# Altium footprint library Pulser Driver.PcbLib: 49 footprints (part 2 of 4)
Each footprint in its own frame and in the unit in brackets; x right, y up, seen from the top. Pads: shape width x height; smd on the part's side, far side on the other; paste and mask are expansions set on the pad; w line width, h text height; cw(c..) or ccw(c..) is an arc to the next point about the centre after c.
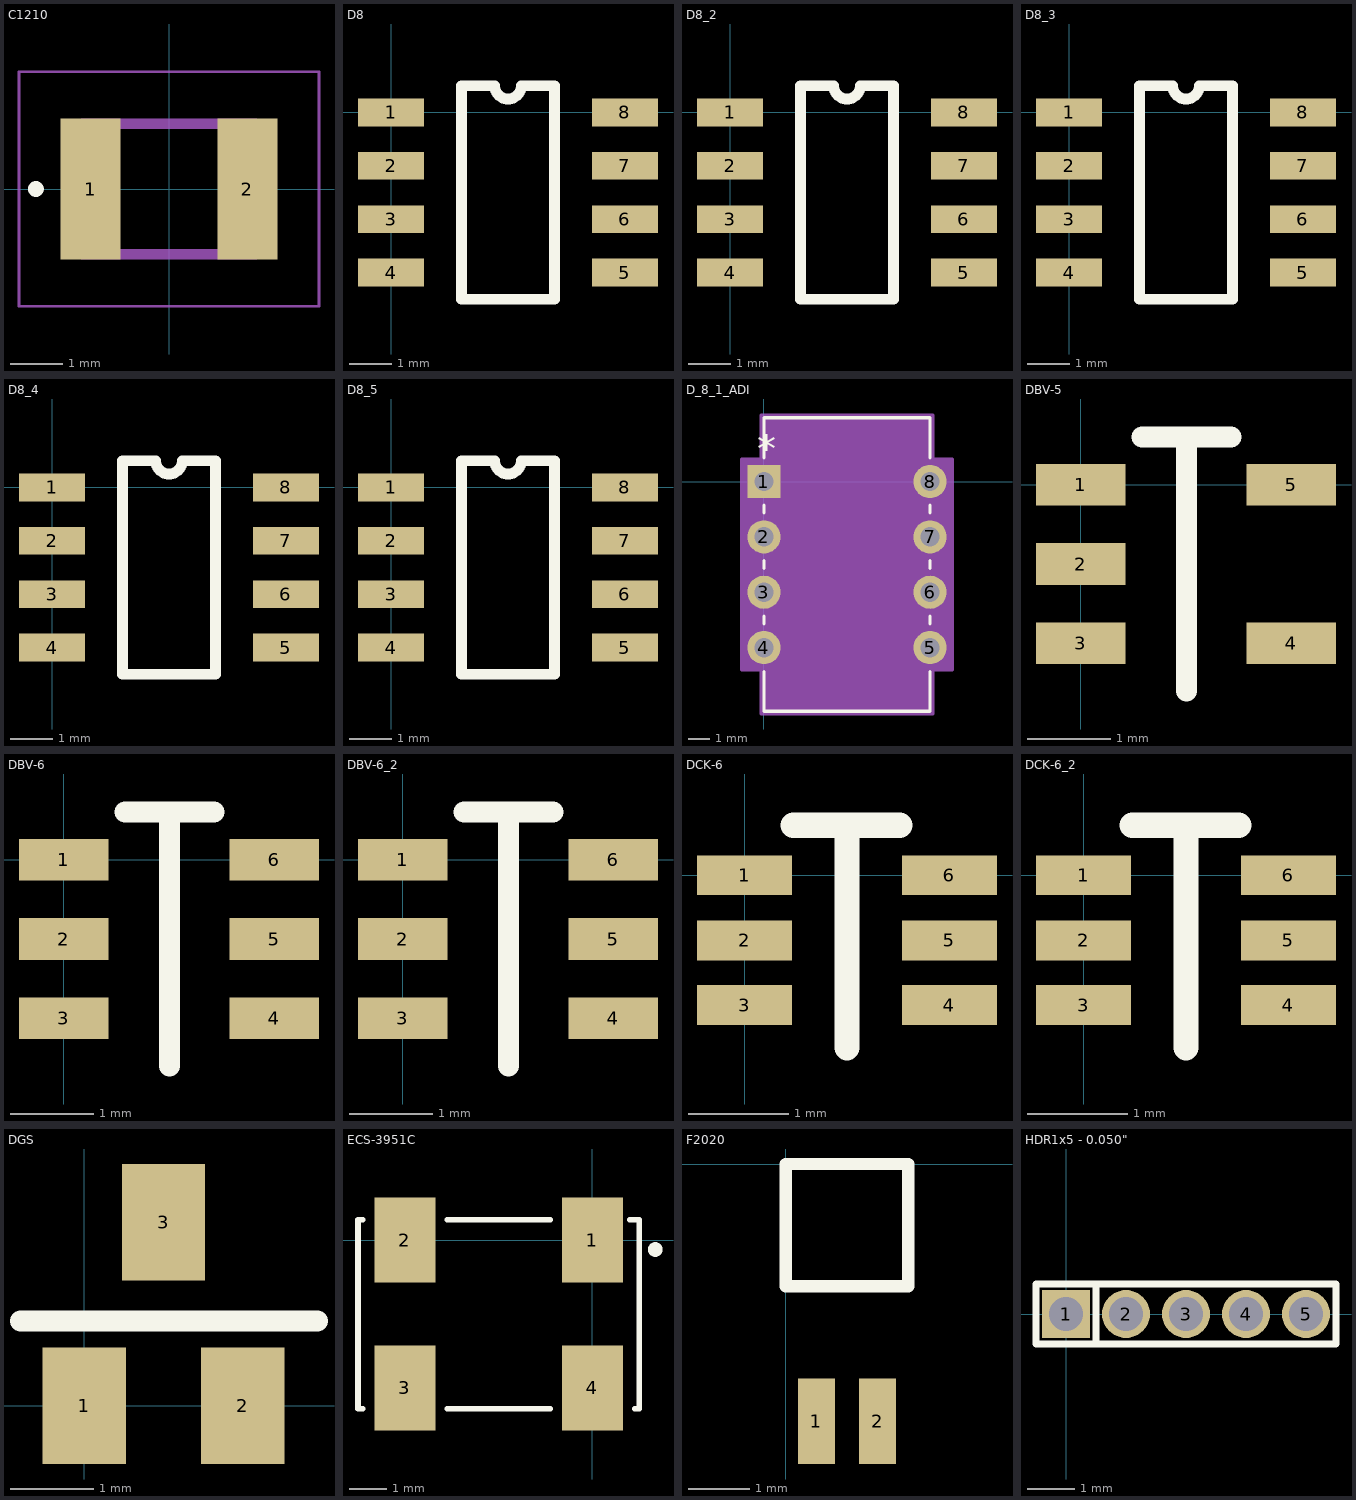
[diagram p1: the footprints below, top view; thin cyan lines are the x and y axes]

## C1210 [mm]
pads (2):
  rect 1.15x2.7 smd: 1(-1.5,0) 2(1.5,0)
Top Overlay:
  circle w0.2: c-2.55,0 r0.05
Mechanical 13:
  lines w0.2: -1.65,-1.25 1.65,-1.25 1.65,1.25 -1.65,1.25 -1.65,-1.25
Mechanical 15:
  lines w0.05: -2.875,-2.25 2.875,-2.25 2.875,2.25 -2.875,2.25 -2.875,-2.25
3D body "C1210H104J1GACTU.stp": height 1.9, standoff 0, extent -1.7,-1.35 1.7,1.35

## D8 [mil]
pads (8):
  rect 62x26 smd: 1(0,0) 2(0,-50) 3(0,-100) 4(0,-150) 5(219,-150) 6(219,-100) 7(219,-50) 8(219,0)
Top Overlay:
  lines w10: 66,-175 66,25 97,25 ccw(c109.5,25) 122,25 153,25 153,-175 66,-175

## D8_2 [mil]
pads (8):
  rect 62x26 smd: 1(0,0) 2(0,-50) 3(0,-100) 4(0,-150) 5(219,-150) 6(219,-100) 7(219,-50) 8(219,0)
Top Overlay:
  lines w10: 66,-175 66,25 97,25 ccw(c109.5,25) 122,25 153,25 153,-175 66,-175

## D8_3 [mil]
pads (8):
  rect 62x26 smd: 1(0,0) 2(0,-50) 3(0,-100) 4(0,-150) 5(219,-150) 6(219,-100) 7(219,-50) 8(219,0)
Top Overlay:
  lines w10: 66,-175 66,25 97,25 ccw(c109.5,25) 122,25 153,25 153,-175 66,-175

## D8_4 [mil]
pads (8):
  rect 62x26 smd: 1(0,0) 2(0,-50) 3(0,-100) 4(0,-150) 5(219,-150) 6(219,-100) 7(219,-50) 8(219,0)
Top Overlay:
  lines w10: 66,-175 66,25 97,25 ccw(c109.5,25) 122,25 153,25 153,-175 66,-175

## D8_5 [mil]
pads (8):
  rect 62x26 smd: 1(0,0) 2(0,-50) 3(0,-100) 4(0,-150) 5(219,-150) 6(219,-100) 7(219,-50) 8(219,0)
Top Overlay:
  lines w10: 66,-175 66,25 97,25 ccw(c109.5,25) 122,25 153,25 153,-175 66,-175

## D_8_1_ADI [mil]
pads (8):
  rect 60x60 / inner round 60 / far side rect 60x60 hole 35 paste-30 mask+0: 1(0,0)
  round 60 hole 35 paste-30 mask-30: 2(0,-100) 3(0,-200) 4(0,-300) 5(300,-300) 6(300,-200) 7(300,-100) 8(300,0)
Top Overlay:
  lines w6: 0,-343.1 0,-415 300,-415 300,-343.1 ; 0,-256.9 0,-243.1 ; 0,-156.9 0,-143.1 ; 0,-56.9 0,-43.1 ; 0,43.1 0,115 300,115 300,43.1 ; 300,-256.9 300,-243.1 ; 300,-156.9 300,-143.1 ; 300,-56.9 300,-43.1
  text "*" at -12.5,35 h50
Mechanical 13:
  lines w0: 138,110 ccw(c150,110) 162,110
  lines w1: -17.5,-317.5 -17.5,-282.5 5,-282.5 5,-317.5 -17.5,-317.5 ; -17.5,-217.5 -17.5,-182.5 5,-182.5 5,-217.5 -17.5,-217.5 ; -17.5,-117.5 -17.5,-82.5 5,-82.5 5,-117.5 -17.5,-117.5 ; -17.5,-17.5 -17.5,17.5 5,17.5 5,-17.5 -17.5,-17.5 ; 5,-410 295,-410 295,110 5,110 5,-410 ; 295,-317.5 295,-282.5 317.5,-282.5 317.5,-317.5 295,-317.5 ; 295,-217.5 295,-182.5 317.5,-182.5 317.5,-217.5 295,-217.5 ; 295,-117.5 295,-82.5 317.5,-82.5 317.5,-117.5 295,-117.5 ; 295,-17.5 295,17.5 317.5,17.5 317.5,-17.5 295,-17.5
  text "*" at 2.5,-25 h50
Mechanical 15:
  region: 305,-340 340,-340 340,40 305,40 305,120 -5,120 -5,40 -40,40 -40,-340 -5,-340 -5,-420 305,-420
  lines w6: -40,-340 -40,40 -5,40 -5,120 305,120 305,40 340,40 340,-340 305,-340 305,-420 -5,-420 -5,-340 -40,-340
3D body "D_8_1_ADI.step": height 113.11, standoff -100, extent -5,-410 315,110

## DBV-5 [mm] "SOT-23-5 Footprint for TI devices"
height 1.45
pads (5):
  rect 1.075x0.5 smd: 1(0,0) 2(0,-0.95) 3(0,-1.9) 4(2.525,-1.9) 5(2.525,0)
Top Overlay:
  lines w0.254: 0.737,0.575 1.803,0.575 ; 1.27,-2.475 1.27,0.575

## DBV-6 [mm] "SOT-23-6 Footprint for TI devices"
height 1.45
pads (6):
  rect 1.075x0.5 smd: 1(0,0) 2(0,-0.95) 3(0,-1.9) 4(2.525,-1.9) 5(2.525,-0.95) 6(2.525,0)
Top Overlay:
  lines w0.254: 0.737,0.575 1.803,0.575 ; 1.27,-2.475 1.27,0.575

## DBV-6_2 [mm]
pads (6):
  rect 1.075x0.5 smd: 1(0,0) 2(0,-0.95) 3(0,-1.9) 4(2.525,-1.9) 5(2.525,-0.95) 6(2.525,0)
Top Overlay:
  lines w0.254: 0.737,0.575 1.803,0.575 ; 1.27,-2.475 1.27,0.575

## DCK-6 [mm] "SC-70-6 Footprint for TI devices"
height 1.1
pads (6):
  rect 0.95x0.4 smd: 1(0,0) 2(0,-0.65) 3(0,-1.3) 4(2.05,-1.3) 5(2.05,-0.65) 6(2.05,0)
Top Overlay:
  lines w0.254: 0.487,0.5 1.553,0.5 ; 1.025,-1.725 1.025,0.5

## DCK-6_2 [mm]
pads (6):
  rect 0.95x0.4 smd: 1(0,0) 2(0,-0.65) 3(0,-1.3) 4(2.05,-1.3) 5(2.05,-0.65) 6(2.05,0)
Top Overlay:
  lines w0.254: 0.487,0.5 1.553,0.5 ; 1.025,-1.725 1.025,0.5

## DGS [mm]
height 1.45
pads (3):
  rect 1x1.4 smd: 1(0,0) 2(1.9,0) 3(0.95,2.2)
Top Overlay:
  lines w0.254: -0.762,1.016 2.794,1.016

## ECS-3951C [mm]
pads (4):
  rect 1.65x2.3 smd: 1(0,0) 2(-5.08,0) 3(-5.08,-4) 4(0,-4)
Top Overlay:
  circle w0.254: c1.706,-0.254 r0.072
  lines w0.152: -6.223,-4.572 -6.35,-4.572 -6.35,0.55 -6.223,0.55 ; -3.937,-4.572 -1.143,-4.572 ; -3.937,0.55 -1.143,0.55 ; 1.016,0.55 1.27,0.55 1.27,-4.572 1.143,-4.572

## F2020 [mm] "F2020 Resistive Temperature Detector"
pads (2):
  rect 0.6x1.4 smd: 1(0.5,-4.2) 2(1.5,-4.2)
Top Overlay:
  lines w0.203: 0,-2 2,-2 2,0 0,0 0,-2

## HDR1x5 - 0.050" [mil] "Header Pin Connector - 0.050\" Pitch"
pads (5):
  rect 40x40 hole 28: 1(0,0)
  round 40 hole 28: 2(50,0) 3(100,0) 4(150,0) 5(200,0)
Top Overlay:
  lines w6: 25,-25 25,25 ; -25,-25 225,-25 225,25 -25,25 -25,-25